# Altium schematic symbol library OPT3001DNPRQ1.SchLib: 1 symbol
Pins are listed as number, name and electrical type; pins without a type are passive.

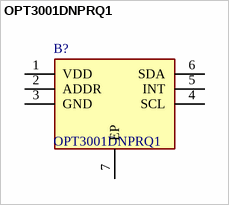
[diagram p0: symbol OPT3001DNPRQ1]

## OPT3001DNPRQ1
designator B?
Automotive digital ambient light sensor (ALS) with high-precision human-eye response; Manufacturer_Name: Texas Instruments; Geometry.Height: 0.65mm; Mouser Part Number: 595-OPT3001DNPRQ1; Mouser Price/Stock: https://www.mouser.co.uk/ProductDetail/Texas-Instruments/OPT3001DNPRQ1?qs=F5EMLAvA7IAmN2MDU1xuSw%3D%3D; Manufacturer_Part_Number: OPT3001DNPRQ1; Datasheet Link: http://www.ti.com/lit/gpn/OPT3001-Q1
footprint SON65P200X200X65-7N-D
pins: 1 VDD, 2 ADDR, 3 GND, 4 SCL, 5 INT, 6 SDA, 7 EP